# Altium footprint library ZEDF9P15B.PcbLib: 1 footprints
Each footprint in its own frame and in the unit in brackets; x right, y up, seen from the top. Pads: shape width x height; smd on the part's side, far side on the other; paste and mask are expansions set on the pad; w line width, h text height; cw(c..) or ccw(c..) is an arc to the next point about the centre after c.
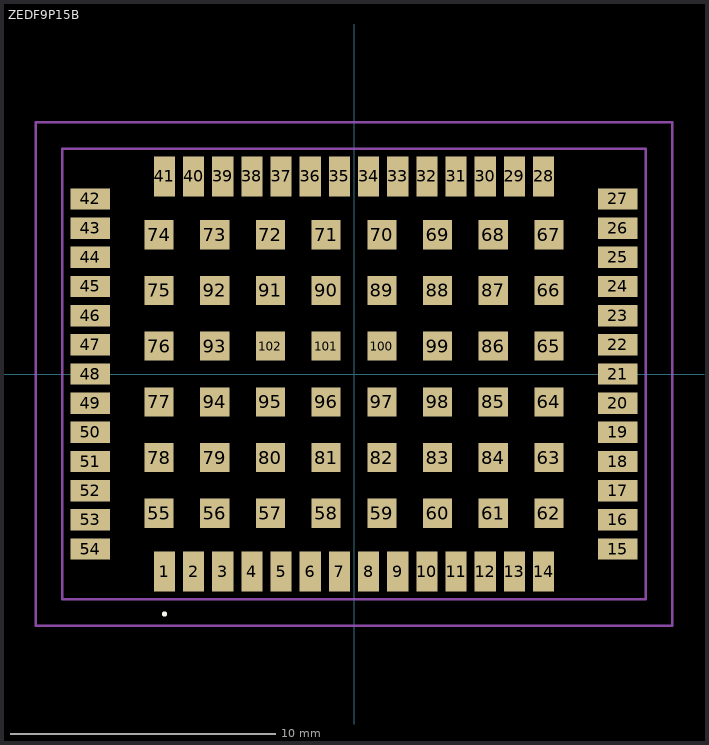
[diagram p0: the footprint, top view; thin cyan lines are the x and y axes]

## ZEDF9P15B [mm]
pads (102):
  rect 0.8x1.5 smd: 1(-7.15,-7.45) 2(-6.05,-7.45) 3(-4.95,-7.45) 4(-3.85,-7.45) 5(-2.75,-7.45) 6(-1.65,-7.45) 7(-0.55,-7.45) 8(0.55,-7.45) 9(1.65,-7.45) 10(2.75,-7.45) 11(3.85,-7.45) 12(4.95,-7.45) 13(6.05,-7.45) 14(7.15,-7.45) 28(7.15,7.45) 29(6.05,7.45) 30(4.95,7.45) 31(3.85,7.45) 32(2.75,7.45) 33(1.65,7.45) 34(0.55,7.45) 35(-0.55,7.45) 36(-1.65,7.45) 37(-2.75,7.45) 38(-3.85,7.45) 39(-4.95,7.45) 40(-6.05,7.45) 41(-7.15,7.45)
  rect 1.5x0.8 smd: 15(9.95,-6.6) 16(9.95,-5.5) 17(9.95,-4.4) 18(9.95,-3.3) 19(9.95,-2.2) 20(9.95,-1.1) 21(9.95,0) 22(9.95,1.1) 23(9.95,2.2) 24(9.95,3.3) 25(9.95,4.4) 26(9.95,5.5) 27(9.95,6.6) 42(-9.95,6.6) 43(-9.95,5.5) 44(-9.95,4.4) 45(-9.95,3.3) 46(-9.95,2.2) 47(-9.95,1.1) 48(-9.95,0) 49(-9.95,-1.1) 50(-9.95,-2.2) 51(-9.95,-3.3) 52(-9.95,-4.4) 53(-9.95,-5.5) 54(-9.95,-6.6)
  rect 1.1x1.1 smd: 55(-7.35,-5.25) 56(-5.25,-5.25) 57(-3.15,-5.25) 58(-1.05,-5.25) 59(1.05,-5.25) 60(3.15,-5.25) 61(5.25,-5.25) 62(7.35,-5.25) 63(7.35,-3.15) 64(7.35,-1.05) 65(7.35,1.05) 66(7.35,3.15) 67(7.35,5.25) 68(5.25,5.25) 69(3.15,5.25) 70(1.05,5.25) 71(-1.05,5.25) 72(-3.15,5.25) 73(-5.25,5.25) 74(-7.35,5.25) 75(-7.35,3.15) 76(-7.35,1.05) 77(-7.35,-1.05) 78(-7.35,-3.15) 79(-5.25,-3.15) 80(-3.15,-3.15) 81(-1.05,-3.15) 82(1.05,-3.15) 83(3.15,-3.15) 84(5.25,-3.15) 85(5.25,-1.05) 86(5.25,1.05) 87(5.25,3.15) 88(3.15,3.15) 89(1.05,3.15) 90(-1.05,3.15) 91(-3.15,3.15) 92(-5.25,3.15) 93(-5.25,1.05) 94(-5.25,-1.05) 95(-3.15,-1.05) 96(-1.05,-1.05) 97(1.05,-1.05) 98(3.15,-1.05) 99(3.15,1.05) 100(1.05,1.05) 101(-1.05,1.05) 102(-3.15,1.05)
Top Overlay:
  lines w0.1: -7.15,-9.1 cw(c-7.15,-9.05) -7.15,-9 ; -7.15,-9.1 -7.15,-9.1 ; -7.15,-9.1 ccw(c-7.15,-9.05) -7.15,-9 ; -7.15,-9 -7.15,-9
Mechanical 15:
  lines w0.1: -11,-8.5 11,-8.5 11,8.5 -11,8.5 -11,-8.5
Mechanical 20:
  lines w0.1: -12,-9.5 12,-9.5 12,9.5 -12,9.5 -12,-9.5